# EAGLE library part SW-DPDT (library Ai_Electromechanical)
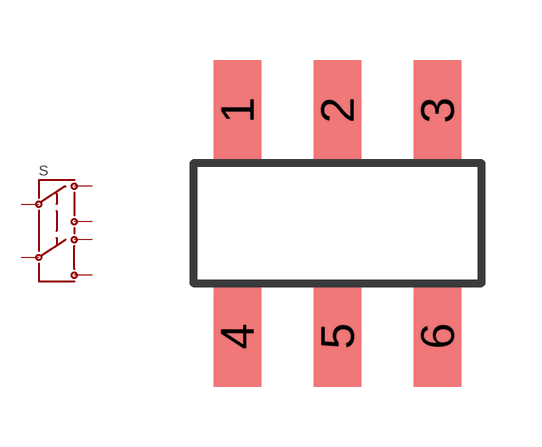
[diagram p0: symbol with the pads of SW-DPDT-SMD; footprint SW-DPDT-SMD]

Designator prefix S

## SW-DPDTSMD  [SW-DPDT-SMD]
1  1
2  2
3  3
4  4
5  5
6  6

## Footprint SW-DPDT-SMD (pad centres in mm)
DPDT Slide Switch SMD www.SparkFun.com SKU : Comp-SMDS
smd 1.194 x 2.515: 1 -2.5,2.825; 2 0,2.825; 3 2.5,2.825; 4 -2.5,-2.825; 5 0,-2.825; 6 2.5,-2.825